# Altium footprint library LDO.PcbLib: 4 footprints
Each footprint in its own frame and in the unit in brackets; x right, y up, seen from the top. Pads: shape width x height; smd on the part's side, far side on the other; paste and mask are expansions set on the pad; w line width, h text height; cw(c..) or ccw(c..) is an arc to the next point about the centre after c.
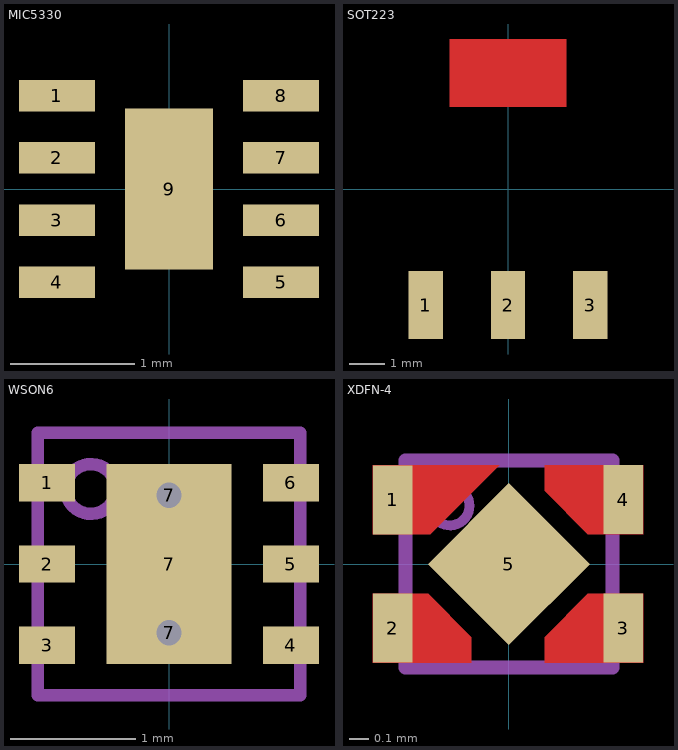
[diagram p0: the footprints below, top view; thin cyan lines are the x and y axes]

## MIC5330 [mil]
pads (9):
  rect 24x10 smd paste+0 mask+0: 1(-35.5,29.53) 2(-35.5,9.84) 3(-35.5,-9.84) 4(-35.5,-29.53) 5(35.5,-29.53) 6(35.5,-9.84) 7(35.5,9.84) 8(35.5,29.53)
  rect 28x51 smd paste+0 mask+0: 9(0,0)
3D body "MLF-8_ML_MCH.step": height 35.12, standoff 0, extent -39.48,-39.48 39.5,39.49

## SOT223 [mil]
pads (3):
  rect 38x75 smd paste+0 mask+0: 1(-90.55,-128) 2(0,-128) 3(90.55,-128)
Top Layer:
  region: 64,90.5 64,165.5 -64,165.5 -64,90.5
Top Paste:
  region: 55,100 55,155 -55,155 -55,100
Top Solder:
  region: 64,90.5 64,165.5 -64,165.5 -64,90.5
  region: 64,90.5 64,165.5 -64,165.5 -64,90.5
3D body "SOT-223_STM.step": height 71.1, standoff 0, extent -132,-143.5 132.01,143.51

## WSON6 [mm]
pads (9):
  rect 0.45x0.3 smd paste+0 mask+0.051: 1(-0.975,0.65) 2(-0.975,0) 3(-0.975,-0.65) 4(0.975,-0.65) 5(0.975,0) 6(0.975,0.65)
  round 0.5 hole 0.203 mask+0.051: 7(0,-0.55) 7(0,0.55)
  rect 1x1.6 smd paste-0.5 mask+0.051: 7(0,0)
Top Paste:
  region: -0.499,-0.761 -0.5,-0.751 -0.5,-0.149 -0.499,-0.139 -0.496,-0.13 -0.492,-0.122 -0.486,-0.114 -0.478,-0.108 -0.47,-0.104 -0.461,-0.101 -0.451,-0.1 0.451,-0.1 0.461,-0.101 0.47,-0.104 0.478,-0.108 0.486,-0.114 0.492,-0.122 0.496,-0.13 0.499,-0.139 0.5,-0.149 0.5,-0.751 0.499,-0.761 0.496,-0.77 0.492,-0.778 0.486,-0.786 0.478,-0.792 0.47,-0.796 0.461,-0.799 0.451,-0.8 -0.451,-0.8 -0.461,-0.799 -0.47,-0.796 -0.478,-0.792 -0.486,-0.786 -0.492,-0.778 -0.496,-0.77
  region: -0.499,0.139 -0.5,0.149 -0.5,0.751 -0.499,0.761 -0.496,0.77 -0.492,0.778 -0.486,0.786 -0.478,0.792 -0.47,0.796 -0.461,0.799 -0.451,0.8 0.451,0.8 0.461,0.799 0.47,0.796 0.478,0.792 0.486,0.786 0.492,0.778 0.496,0.77 0.499,0.761 0.5,0.751 0.5,0.149 0.499,0.139 0.496,0.13 0.492,0.122 0.486,0.114 0.478,0.108 0.47,0.104 0.461,0.101 0.451,0.1 -0.451,0.1 -0.461,0.101 -0.47,0.104 -0.478,0.108 -0.486,0.114 -0.492,0.122 -0.496,0.13
Mechanical 13:
  circle w0.1: c-0.625,0.6 r0.2
  lines w0.1: -1.05,-1.05 1.05,-1.05 1.05,1.05 -1.05,1.05 -1.05,-1.05
3D body: height 0.25, standoff 0, extent 0,0 0.254,0.254
3D body "DRV0006B.stp": height 0.8, standoff 0, extent -1,-1 1,1

## XDFN-4 [mm]
pads (5):
  rect 0.2x0.35 smd mask+0: 1(-0.59,0.325) 2(-0.59,-0.325) 3(0.58,-0.325) 4(0.58,0.326)
  rect 0.58x0.58 smd rot 45 paste-0.04 mask+0.076: 5(0,0)
Top Layer:
  region: -0.19,-0.37 -0.41,-0.15 -0.69,-0.15 -0.69,-0.5 -0.19,-0.5
  region: 0.18,-0.37 0.4,-0.15 0.68,-0.15 0.68,-0.5 0.18,-0.5
  region: 0.18,0.37 0.4,0.15 0.68,0.15 0.68,0.5 0.18,0.5
  region: -0.69,0.15 -0.69,0.5 -0.05,0.5 -0.4,0.15
Mechanical 13:
  circle w0.05: c-0.299,0.295 r0.099
  lines w0.07: -0.525,-0.525 -0.525,0.525 0.525,0.525 0.525,-0.525 -0.525,-0.525
3D body: height 0.25, standoff 0, extent -0.508,-0.508 0.508,0.508